# Altium footprint library HyTechDevices.PCBLIB: 204 footprints (part 9 of 13)
Each footprint in its own frame and in the unit in brackets; x right, y up, seen from the top. Pads: shape width x height; smd on the part's side, far side on the other; paste and mask are expansions set on the pad; w line width, h text height; cw(c..) or ccw(c..) is an arc to the next point about the centre after c.
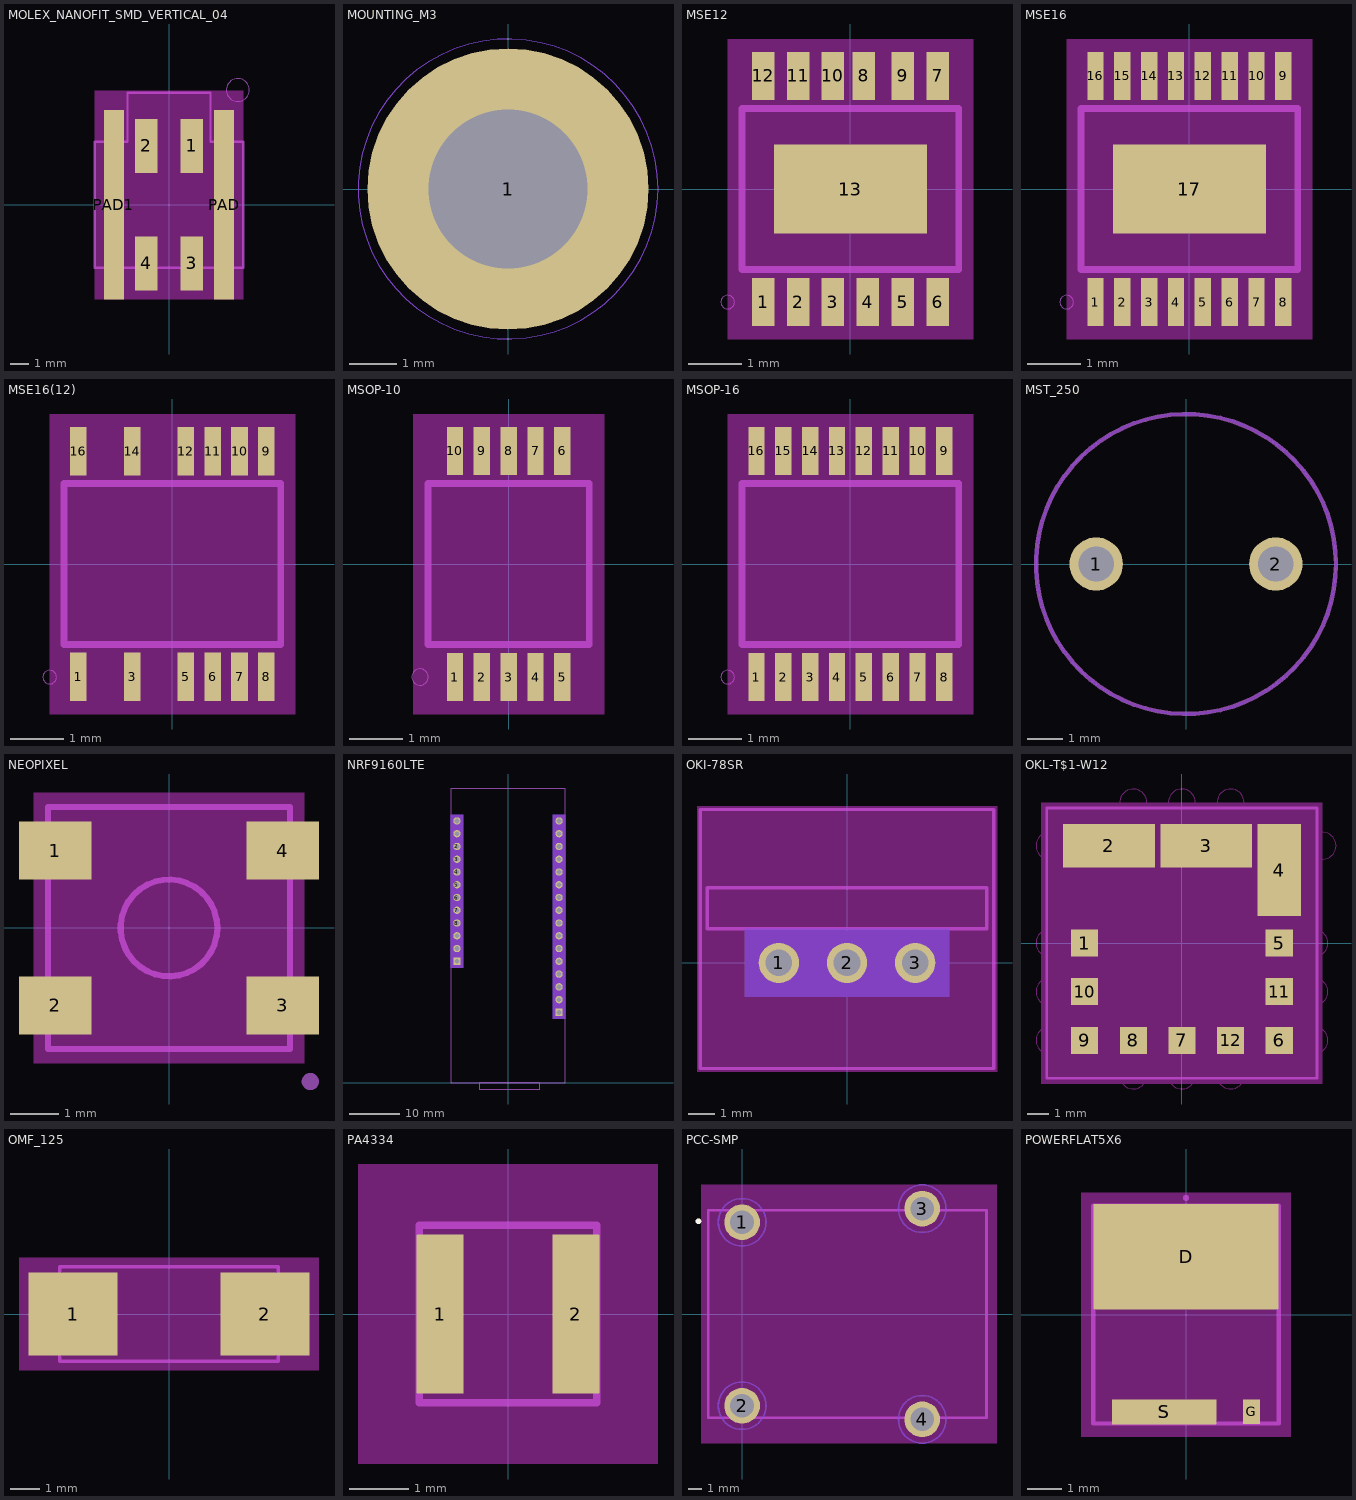
[diagram p8: the footprints below, top view; thin cyan lines are the x and y axes]

## MOLEX_NANOFIT_SMD_VERTICAL_04 [mm]
pads (6):
  rect 1.24x3 smd: 1(1.25,3.25) 2(-1.25,3.25) 3(1.25,-3.25) 4(-1.25,-3.25)
  rect 1.1x10.5 smd: PAD(3.055,0) PAD1(-3.055,0)
Top keep-out:
  region: -4.115,-5.25 -4.115,6.3 4.115,6.3 4.115,-5.25
tPlace:
  circle w0: c3.81,6.35 r0.635
  lines w0.127: -4.115,-3.49 4.115,-3.49 4.115,3.49 2.3,3.49 2.3,6.2 -2.3,6.2 -2.3,3.49 -4.115,3.49 -4.115,-3.49

## MOUNTING_M3 [mm]
pads (1):
  round 6 hole 3.4: 1(0,0)
Top keep-out:
  circle w0: c0,0 r3.2
  circle w0: c0,0 r3.2
Bottom keep-out:
  circle w0: c0,0 r3.2
tValues:
  text "M3" at 0,-3.5 h0.69

## MSE12 [mil]
pads (13):
  rect 16.54x35 smd: 1(-63.98,-82.89) 2(-38.39,-82.89) 3(-12.8,-82.89) 4(12.8,-82.89) 5(38.39,-82.89) 6(63.98,-82.89) 7(63.98,82.89) 8(9.84,82.89) 9(38.39,82.89) 10(-12.8,82.89) 11(-38.39,82.89) 12(-63.98,82.89)
  rect 112.01x65 smd: 13(0,0)
Top keep-out:
  region: -90,-110 -90,110 90,110 90,-110
tPlace:
  circle w0: c-90,-83 r5
  lines w5: -79.51,-59.06 -79.51,59.06 79.51,59.06 79.51,-59.06 -79.51,-59.06

## MSE16 [mil]
pads (17):
  rect 12.01x35 smd: 1(-68.9,-82.89) 2(-49.21,-82.89) 3(-29.53,-82.89) 4(-9.84,-82.89) 5(9.84,-82.89) 6(29.53,-82.89) 7(49.21,-82.89) 8(68.9,-82.89) 9(68.9,82.89) 10(49.21,82.89) 11(29.53,82.89) 12(9.84,82.89) 13(-9.84,82.89) 14(-29.53,82.89) 15(-49.21,82.89) 16(-68.9,82.89)
  rect 112.01x65 smd: 17(0,0)
Top keep-out:
  region: -90,-110 -90,110 90,110 90,-110
tPlace:
  circle w0: c-90,-83 r5
  lines w5: -79.51,-59.06 -79.51,59.06 79.51,59.06 79.51,-59.06 -79.51,-59.06

## MSE16(12) [mil]
pads (12):
  rect 12.15x35.5 smd: 1(-68.9,-82.75) 3(-29.53,-82.75) 5(9.84,-82.75) 6(29.53,-82.75) 7(49.21,-82.75) 8(68.9,-82.75) 9(68.9,82.75) 10(49.21,82.75) 11(29.53,82.75) 12(9.84,82.75) 14(-29.53,82.75) 16(-68.9,82.75)
Top keep-out:
  region: -90,-110 -90,110 90,110 90,-110
tPlace:
  circle w0: c-90,-83 r5
  lines w5: -79.51,-59.06 -79.51,59.06 79.51,59.06 79.51,-59.06 -79.51,-59.06

## MSOP-10 [mil]
pads (10):
  rect 12.01x35 smd: 1(-39.37,-82.89) 2(-19.69,-82.89) 3(0,-82.89) 4(19.69,-82.89) 5(39.37,-82.89) 6(39.37,82.89) 7(19.69,82.89) 8(0,82.89) 9(-19.69,82.89) 10(-39.37,82.89)
Top keep-out:
  region: -70,-110 -70,110 70,110 70,-110
tPlace:
  circle w0: c-65,-82.89 r6
  lines w5: -59.06,-59.06 59.06,-59.06 59.06,59.06 -59.06,59.06 -59.06,-59.06

## MSOP-16 [mil]
pads (16):
  rect 12.01x35 smd: 1(-68.9,-82.89) 2(-49.21,-82.89) 3(-29.53,-82.89) 4(-9.84,-82.89) 5(9.84,-82.89) 6(29.53,-82.89) 7(49.21,-82.89) 8(68.9,-82.89) 9(68.9,82.89) 10(49.21,82.89) 11(29.53,82.89) 12(9.84,82.89) 13(-9.84,82.89) 14(-29.53,82.89) 15(-49.21,82.89) 16(-68.9,82.89)
Top keep-out:
  region: -90,-110 -90,110 90,110 90,-110
tPlace:
  circle w0: c-90,-83 r5
  lines w5: -79.51,-59.06 -79.51,59.06 79.51,59.06 79.51,-59.06 -79.51,-59.06

## MST_250 [mm]
pads (2):
  round 1.508 hole 1: 1(-2.54,0) 2(2.54,0)
Top keep-out:
  circle w0: c0,0 r4.242
Bottom keep-out:
  circle w0: c0,0 r4.242
tPlace:
  circle w0.127: c0,0 r4.242

## NEOPIXEL [mm]
pads (4):
  rect 1.5x1.2 smd: 1(-2.35,1.6) 2(-2.35,-1.6) 3(2.35,-1.6) 4(2.35,1.6)
Top keep-out:
  region: -2.794,-2.794 -2.794,2.794 2.794,2.794 2.794,-2.794
tPlace:
  circle w0.127: c0,0 r1
  circle w0.203: c2.921,-3.175 r0.076
  lines w0.127: -2.5,-2.5 -2.5,2.5 2.5,2.5 2.5,-2.5 -2.5,-2.5

## NRF9160LTE [mil]
pads (28):
  round 57.4 hole 37.4: 2(-400,1850) 3(-400,1750) 3V3(400,650) 4(-400,1650) 5(-400,1550) 6(-400,1450) 7(-400,1350) 8(-400,1250) A0(400,950) A1(400,1050) A2(400,1150) A3(400,1250) A4(400,1350) A5(400,1450) CIPO(400,1750) COPI(400,1650) EN(-400,1050) GND(400,850) MD(400,750) PS-EN(400,2050) RX(400,1850) SCK(400,1550) SCL/1(-400,1950) SDA/0(-400,2050) TX(400,1950) VUSB(-400,1150)
  rect 57.4x57.4 / inner round 53.03 / far side rect 57.4x57.4 hole 37.4: RESET(400,550) VBAT(-400,950)
Top keep-out:
  region: -450,900 -450,2100 -350,2100 -350,900
  region: 350,500 350,2100 450,2100 450,500
Bottom keep-out:
  region: -450,900 -450,2100 -350,2100 -350,900
  region: 350,500 350,2100 450,2100 450,500
tPlace:
  lines w5: -450,0 250,0 450,0 450,2300 -450,2300 -450,0
  lines w6: -225,-50 250,-50 250,0 -225,0 -225,-50

## OKI-78SR [mil]
pads (3):
  round 59 hole 39: 1(-100,0) 2(0,0) 3(100,0)
Top keep-out:
  region: -220,-160 -220,230 220,230 220,-160
Bottom keep-out:
  region: -150,-50 -150,50 150,50 150,-50
tPlace:
  lines w5: -215,-155 215,-155 215,225 -215,225 -215,-155 ; -205,50 205,50 205,110 -205,110 -205,50

## OKL-T$1-W12 [mil]
pads (12):
  rect 50x50 smd: 1(-180,0) 5(180,0) 6(180,-180) 7(0,-180) 8(-90,-180) 9(-180,-180) 10(-180,-90) 11(180,-90) 12(90,-180)
  rect 170x80 smd: 2(-135,180) 3(45,180)
  rect 80x170 smd: 4(180,135)
Top keep-out:
  circle w0: c-245,180 r25
  circle w0: c-245,0 r25
  circle w0: c-245,-90 r25
  circle w0: c-245,-180 r25
  circle w0: c245,0 r25
  circle w0: c245,-90 r25
  circle w0: c245,-180 r25
  circle w0: c-90,-245 r25
  circle w0: c0,-245 r25
  circle w0: c90,-245 r25
  circle w0: c260,180 r25
  circle w0: c90,260 r25
  circle w0: c0,260 r25
  circle w0: c-90,260 r25
  circle w0: c-245,180 r25
  circle w0: c-245,0 r25
  circle w0: c-245,-90 r25
  circle w0: c-245,-180 r25
  circle w0: c245,0 r25
  circle w0: c245,-90 r25
  circle w0: c245,-180 r25
  circle w0: c-90,-245 r25
  circle w0: c0,-245 r25
  circle w0: c90,-245 r25
  circle w0: c260,180 r25
  circle w0: c90,260 r25
  circle w0: c0,260 r25
  circle w0: c-90,260 r25
  circle w0: c-245,180 r25
  circle w0: c-245,0 r25
  circle w0: c-245,-90 r25
  circle w0: c-245,-180 r25
  circle w0: c245,0 r25
  circle w0: c245,-90 r25
  circle w0: c245,-180 r25
  circle w0: c-90,-245 r25
  circle w0: c0,-245 r25
  circle w0: c90,-245 r25
  circle w0: c260,180 r25
  circle w0: c90,260 r25
  circle w0: c0,260 r25
  circle w0: c-90,260 r25
  region: -260,-260 -260,260 260,260 260,-260
  region: -245,155 -245,205 -220,205 -220,155
  region: -245,-25 -245,25 -205,25 -205,-25
  region: -245,-115 -245,-65 -205,-65 -205,-115
  region: -245,-205 -245,-155 -205,-155 -205,-205
  region: 245,25 245,-25 205,-25 205,25
  region: 245,-65 245,-115 205,-115 205,-65
  region: 245,-155 245,-205 205,-205 205,-155
  region: -65,-245 -115,-245 -115,-205 -65,-205
  region: 25,-245 -25,-245 -25,-205 25,-205
  region: 115,-245 65,-245 65,-205 115,-205
  region: 260,205 260,155 220,155 220,205
  region: 65,260 115,260 115,220 65,220
  region: -25,260 25,260 25,220 -25,220
  region: -115,260 -65,260 -65,220 -115,220
  region: -245,155 -245,205 -220,205 -220,155
  region: -245,-25 -245,25 -205,25 -205,-25
  region: -245,-115 -245,-65 -205,-65 -205,-115
  region: -245,-205 -245,-155 -205,-155 -205,-205
  region: 245,25 245,-25 205,-25 205,25
  region: 245,-65 245,-115 205,-115 205,-65
  region: 245,-155 245,-205 205,-205 205,-155
  region: -65,-245 -115,-245 -115,-205 -65,-205
  region: 25,-245 -25,-245 -25,-205 25,-205
  region: 115,-245 65,-245 65,-205 115,-205
  region: 260,205 260,155 220,155 220,205
  region: 65,260 115,260 115,220 65,220
  region: -25,260 25,260 25,220 -25,220
  region: -115,260 -65,260 -65,220 -115,220
  region: -245,155 -245,205 -220,205 -220,155
  region: -245,-25 -245,25 -205,25 -205,-25
  region: -245,-115 -245,-65 -205,-65 -205,-115
  region: -245,-205 -245,-155 -205,-155 -205,-205
  region: 245,25 245,-25 205,-25 205,25
  region: 245,-65 245,-115 205,-115 205,-65
  region: 245,-155 245,-205 205,-205 205,-155
  region: -65,-245 -115,-245 -115,-205 -65,-205
  region: 25,-245 -25,-245 -25,-205 25,-205
  region: 115,-245 65,-245 65,-205 115,-205
  region: 260,205 260,155 220,155 220,205
  region: 65,260 115,260 115,220 65,220
  region: -25,260 25,260 25,220 -25,220
  region: -115,260 -65,260 -65,220 -115,220
tPlace:
  lines w5: -250,-250 -250,250 250,250 250,-250 -250,-250

## OMF_125 [mm]
pads (2):
  rect 3x2.8 smd: 1(-3.25,0) 2(3.25,0)
Top keep-out:
  region: -5.08,-1.905 -5.08,1.905 5.08,1.905 5.08,-1.905
  region: -1.75,-1.905 -1.75,1.905 1.75,1.905 1.75,-1.905
  region: -1.75,-1.905 -1.75,1.905 1.75,1.905 1.75,-1.905
tPlace:
  lines w0.127: -3.7,-1.6 -3.7,1.6 3.7,1.6 3.7,-1.6 -3.7,-1.6

## PA4334 [mil]
pads (2):
  rect 31.5x106.3 smd: 1(-45.28,0) 2(45.28,0)
Top keep-out:
  region: -100,-100 -100,100 100,100 100,-100
tPlace:
  lines w5: -59.06,-59.06 -59.06,59.06 59.06,59.06 59.06,-59.06 -59.06,-59.06

## PCC-SMP [mil]
pads (4):
  round 105 hole 70: 1(0,270) 2(0,-270) 3(530,310) 4(530,-310)
Top keep-out:
  region: -120,-380 -120,380 750,380 750,-380
Bottom keep-out:
  circle w5: c0,270 r70
  circle w5: c0,-270 r70
  circle w5: c530,310 r70
  circle w5: c530,-310 r70
Top Overlay:
  circle w7.87: c-128.39,272.91 r4.37
tPlace:
  lines w7.87: 720,-305.12 720,305.12 ; -100,-305 718.9,-305 718.9,305 -100,305 -100,-305

## POWERFLAT5X6 [mm]
pads (3):
  rect 5.4x3.07 smd: D(0,1.69)
  rect 0.5x0.72 smd: G(1.905,-2.835)
  rect 3.04x0.73 smd: S(-0.635,-2.835)
Top keep-out:
  region: -3.048,-3.556 -3.048,3.556 3.048,3.556 3.048,-3.556
tPlace:
  circle w0.127: c0,3.404 r0.025
  lines w0.127: -2.7,-3.175 2.7,-3.175 2.7,3.175 -2.7,3.175 -2.7,-3.175